# EAGLE library part ADL5606 (library Analog Devices)
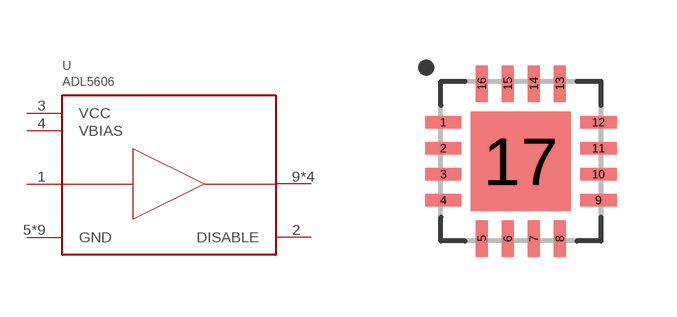
[diagram p42: symbol with the pads of LFCSP16_4X4; footprint LFCSP16_4X4]

Designator prefix U

## ADL5606  [LFCSP16_4X4]
1  RFIN
2  DISABLE
3  VCC
4  VBIAS
5  GND
6  GND
7  GND
8  GND
9  RFOUT
10  RFOUT
11  RFOUT
12  RFOUT
13  GND
14  GND
15  GND
16  GND
17  GND

## Footprint LFCSP16_4X4 (pad centres in mm)
smd 0.908 x 0.306: 1 -1.94,0.975; 2 -1.94,0.325; 3 -1.94,-0.325; 4 -1.94,-0.975; 9 1.94,-0.975; 10 1.94,-0.325; 11 1.94,0.325; 12 1.94,0.975
smd 0.306 x 0.908: 5 -0.975,-1.94; 6 -0.325,-1.94; 7 0.325,-1.94; 8 0.975,-1.94; 13 0.975,1.94; 14 0.325,1.94; 15 -0.325,1.94; 16 -0.975,1.94
smd 2.489 x 2.489: 17 0,0